# Altium footprint library WURTH WS-TATV.PcbLib: 1 footprints
Each footprint in its own frame and in the unit in brackets; x right, y up, seen from the top. Pads: shape width x height; smd on the part's side, far side on the other; paste and mask are expansions set on the pad; w line width, h text height; cw(c..) or ccw(c..) is an arc to the next point about the centre after c.
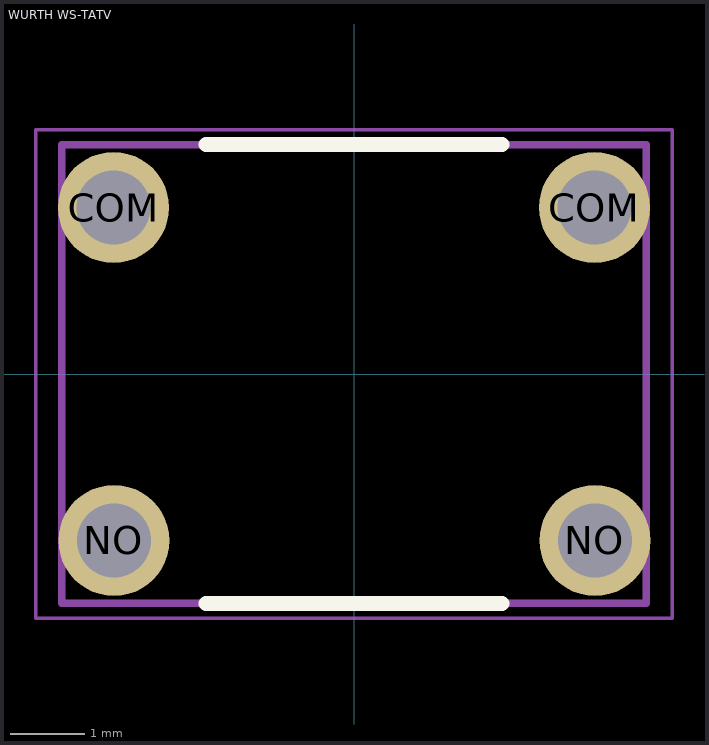
[diagram p0: the footprint, top view; thin cyan lines are the x and y axes]

## WURTH WS-TATV [mm] "THT Tact Switch 6x6 mm height 4.3mm"
height 4.3
pads (4):
  round 1.5 hole 1: COM(-3.25,2.25) COM(3.25,2.25) NO(-3.245,-2.25) NO(3.255,-2.25)
Top Overlay:
  lines w0.2: -2,-3.1 2,-3.1 ; -2,3.1 2,3.1
Top Assembly:
  lines w0.1: -3.947,-3.1 -3.947,3.1 3.947,3.1 3.947,-3.1 -3.947,-3.1
Top Courtyard:
  lines w0.05: -4.3,-3.3 4.3,-3.3 4.3,3.3 -4.3,3.3 -4.3,-3.3
Top Designator:
  text ".Designator" at -4.998,-0.333 h1
3D body "430186043716 (rev1).stp": height 4.3, standoff -3.5, extent -3.947,-3.1 3.947,3.1